# EAGLE library part 653110131822 (library Wire-to-Board (rev18a))
WR-WTB 1.25mm SMT Male Horizontal Shrouded Header, 10 Pins=>Code : Con_WTB_1.25_PCB_SMT_653110131822 <http://katalog.we-online.de/media/thumbs2/eican/thb_Con_WTB_1.25_PCB_SMT_6531xx131822_pf2.jpg> Details see: http://katalog.we-online.de/en/em/WTB_1_25_SMT_MALE_HORIZONTAL_SHROUDED_HEADER_6531XX131822 Created 2014-06-06, Karrer Zheng 2014 (C) Würth Elektronik
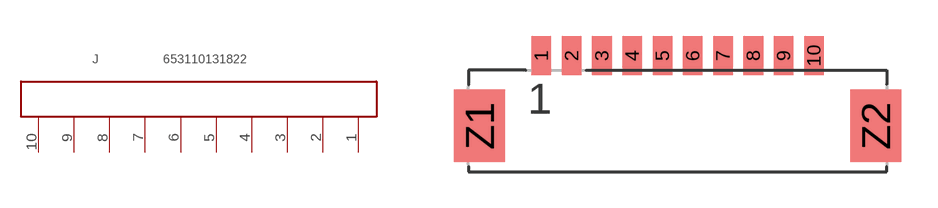
[diagram p67: symbol with the pads of 653110131822; footprint 653110131822]

Designator prefix J

## 653110131822  [653110131822]
1  1  pas
2  2  pas
3  3  pas
4  4  pas
5  5  pas
6  6  pas
7  7  pas
8  8  pas
9  9  pas
10  10  pas

## Footprint 653110131822 (pad centres in mm)
WR-WTB 1.25mm SMT Male Horizontal Shrouded Header, 10 Pins
smd 0.81 x 1.6: 1 -5.625,0; 2 -4.375,0; 3 -3.125,0; 4 -1.875,0; 5 -0.625,0; 6 0.625,0; 7 1.875,0; 8 3.125,0; 9 4.375,0; 10 5.625,0
smd 2.1 x 3: Z1 -8.175,-2.9; Z2 8.175,-2.9